# Altium footprint library PCB - LEADED - SMT_INDUCTOR_1050.PCBLIB: 1 footprints
Each footprint in its own frame and in the unit in brackets; x right, y up, seen from the top. Pads: shape width x height; smd on the part's side, far side on the other; paste and mask are expansions set on the pad; w line width, h text height; cw(c..) or ccw(c..) is an arc to the next point about the centre after c.
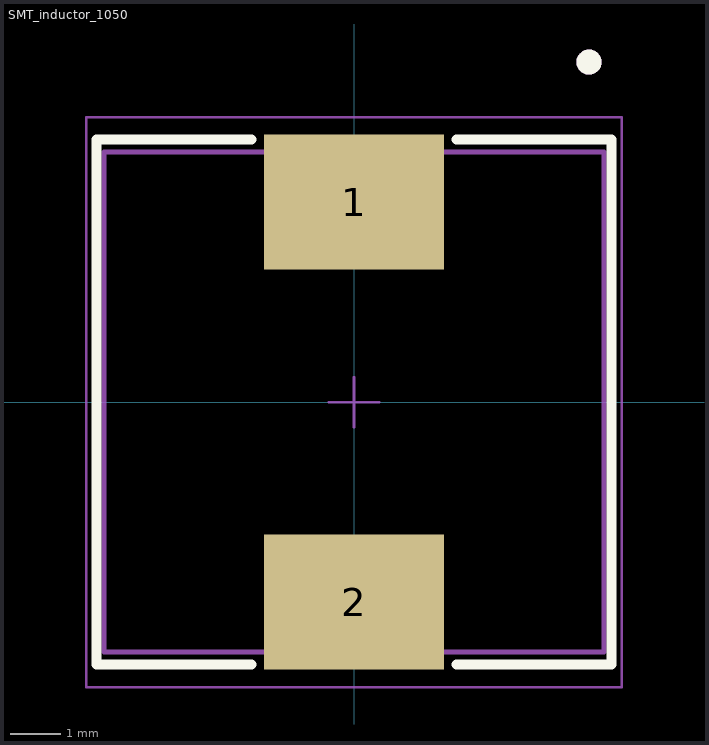
[diagram p0: the footprint, top view; thin cyan lines are the x and y axes]

## SMT_inductor_1050 [mm] "SMD Shielded Power Inductor, 2-leads, body 10.3x10.5mm"
height 5
pads (2):
  rect 3.6x2.7 smd: 1(0,4) 2(0,-4)
Top Overlay:
  circle w0.25: c4.7,6.8 r0.125
  lines w0.2: -2.05,-5.25 -5.15,-5.25 -5.15,5.25 -2.05,5.25 ; 2.05,-5.25 5.15,-5.25 5.15,5.25 2.05,5.25
Top Assembly:
  circle w0.25: c4.7,6.8 r0.125
  lines w0.1: -5,-5 5,-5 5,5 -5,5 -5,-5
Top Courtyard:
  lines w0.05: -5.35,-5.7 5.35,-5.7 5.35,5.7 -5.35,5.7 -5.35,-5.7
Top Designator:
  text ".Designator" at 7.3,0.8 h1
Top Component Center:
  lines w0.05: -0.5,0 0.5,0 ; 0,-0.5 0,0.5
Top Value:
  text ".Comment" at 7.3,-0.8 h1
3D body "7447714xx.stp": height 4.79, standoff -0.01, extent -5,-5 5,5